# Altium footprint library Sensor_Power_Supply.PcbLib: 23 footprints (part 1 of 2)
Each footprint in its own frame and in the unit in brackets; x right, y up, seen from the top. Pads: shape width x height; smd on the part's side, far side on the other; paste and mask are expansions set on the pad; w line width, h text height; cw(c..) or ccw(c..) is an arc to the next point about the centre after c.
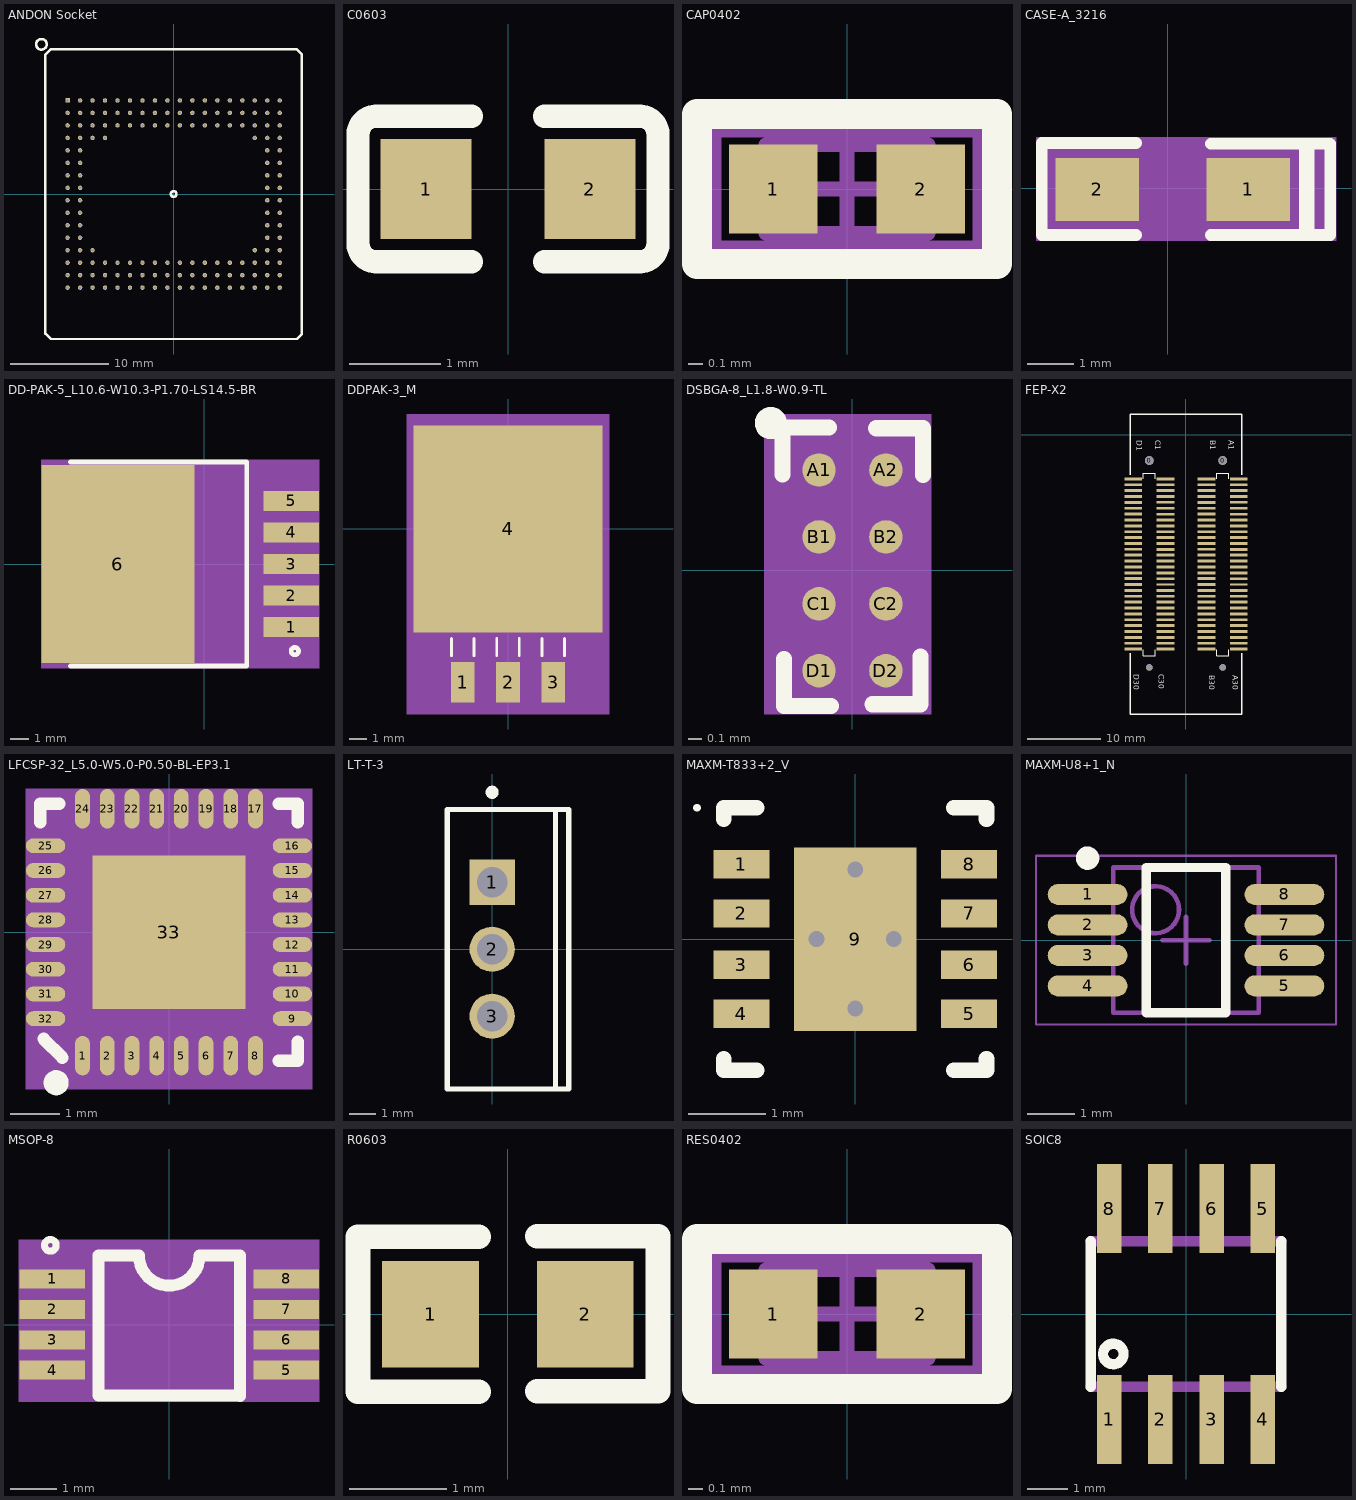
[diagram p0: the footprints below, top view; thin cyan lines are the x and y axes]

## ANDON Socket [mm] "10-18-04A-153-414T4-R27-L14"
pads (153):
  rect 0.45x0.45 hole 0.28 square: A1(-10.795,9.525)
  round 0.45 hole 0.28: A2(-9.525,9.525) A3(-8.255,9.525) A4(-6.985,9.525) A5(-5.715,9.525) A6(-4.445,9.525) A7(-3.175,9.525) A8(-1.905,9.525) A9(-0.635,9.525) A10(0.635,9.525) A11(1.905,9.525) A12(3.175,9.525) A13(4.445,9.525) A14(5.715,9.525) A15(6.985,9.525) A16(8.255,9.525) A17(9.525,9.525) A18(10.795,9.525) B1(-10.795,8.255) B2(-9.525,8.255) B3(-8.255,8.255) B4(-6.985,8.255) B5(-5.715,8.255) B6(-4.445,8.255) B7(-3.175,8.255) B8(-1.905,8.255) B9(-0.635,8.255) B10(0.635,8.255) B11(1.905,8.255) B12(3.175,8.255) B13(4.445,8.255) B14(5.715,8.255) B15(6.985,8.255) B16(8.255,8.255) B17(9.525,8.255) B18(10.795,8.255) C1(-10.795,6.985) C2(-9.525,6.985) C3(-8.255,6.985) C4(-6.985,6.985) C5(-5.715,6.985) C6(-4.445,6.985) C7(-3.175,6.985) C8(-1.905,6.985) C9(-0.635,6.985) C10(0.635,6.985) C11(1.905,6.985) C12(3.175,6.985) C13(4.445,6.985) C14(5.715,6.985) C15(6.985,6.985) C16(8.255,6.985) C17(9.525,6.985) C18(10.795,6.985) D1(-10.795,5.715) D2(-9.525,5.715) D3(-8.255,5.715) D4(-6.985,5.715) D16(8.255,5.715) D17(9.525,5.715) D18(10.795,5.715) E1(-10.795,4.445) E2(-9.525,4.445) E17(9.525,4.445) E18(10.795,4.445) F1(-10.795,3.175) F2(-9.525,3.175) F17(9.525,3.175) F18(10.795,3.175) G1(-10.795,1.905) G2(-9.525,1.905) G17(9.525,1.905) G18(10.795,1.905) H1(-10.795,0.635) H2(-9.525,0.635) H17(9.525,0.635) H18(10.795,0.635) J1(-10.795,-0.635) J2(-9.525,-0.635) J17(9.525,-0.635) J18(10.795,-0.635) K1(-10.795,-1.905) K2(-9.525,-1.905) K17(9.525,-1.905) K18(10.795,-1.905) L1(-10.795,-3.175) L2(-9.525,-3.175) L17(9.525,-3.175) L18(10.795,-3.175) M1(-10.795,-4.445) M2(-9.525,-4.445) M17(9.525,-4.445) M18(10.795,-4.445) N1(-10.795,-5.715) N2(-9.525,-5.715) N3(-8.255,-5.715) N16(8.255,-5.715) N17(9.525,-5.715) N18(10.795,-5.715) P1(-10.795,-6.985) P2(-9.525,-6.985) P3(-8.255,-6.985) P4(-6.985,-6.985) P5(-5.715,-6.985) P6(-4.445,-6.985) P7(-3.175,-6.985) P8(-1.905,-6.985) P9(-0.635,-6.985) P10(0.635,-6.985) P11(1.905,-6.985) P12(3.175,-6.985) P13(4.445,-6.985) P14(5.715,-6.985) P15(6.985,-6.985) P16(8.255,-6.985) P17(9.525,-6.985) P18(10.795,-6.985) R1(-10.795,-8.255) R2(-9.525,-8.255) R3(-8.255,-8.255) R4(-6.985,-8.255) R5(-5.715,-8.255) R6(-4.445,-8.255) R7(-3.175,-8.255) R8(-1.905,-8.255) R9(-0.635,-8.255) R10(0.635,-8.255) R11(1.905,-8.255) R12(3.175,-8.255) R13(4.445,-8.255) R14(5.715,-8.255) R15(6.985,-8.255) R16(8.255,-8.255) R17(9.525,-8.255) R18(10.795,-8.255) T1(-10.795,-9.525) T2(-9.525,-9.525) T3(-8.255,-9.525) T4(-6.985,-9.525) T5(-5.715,-9.525) T6(-4.445,-9.525) T7(-3.175,-9.525) T8(-1.905,-9.525) T9(-0.635,-9.525) T10(0.635,-9.525) T11(1.905,-9.525) T12(3.175,-9.525) T13(4.445,-9.525) T14(5.715,-9.525) T15(6.985,-9.525) T16(8.255,-9.525) T17(9.525,-9.525) T18(10.795,-9.525)
Top Overlay:
  circle w0.254: c-13.462,15.24 r0.539
  circle w0.254: c0,0 r0.284
  lines w0.254: -13.05,-14.2 -13.05,-13.843 -13.05,14.2 -12.5,14.75 12.5,14.75 13.05,14.2 13.05,-13.843 13.05,-14.255 12.555,-14.75 12.5,-14.75 -12.5,-14.75 -13.05,-14.2
3D body: height 4.5, standoff 0, extent -12.065,-11.049 12.065,10.922

## C0603 [mm]
pads (2):
  rect 1x1.1 smd: 1(-0.9,0) 2(0.9,0)
Top Overlay:
  lines w0.254: -0.4,-0.8 -1.4,-0.8 -1.45,-0.8 cw(c-1.45,-0.6) -1.65,-0.6 -1.65,0.6 cw(c-1.45,0.6) -1.45,0.8 -1.4,0.8 -0.4,0.8 ; 0.4,-0.8 1.4,-0.8 1.45,-0.8 ccw(c1.45,-0.6) 1.65,-0.6 1.65,0.6 ccw(c1.45,0.6) 1.45,0.8 1.4,0.8 0.4,0.8

## CAP0402 [mm]
pads (2):
  rect 0.6x0.6 smd: 1(-0.5,0) 2(0.5,0)
Top Overlay:
  lines w0.2: -1.016,-0.508 1.016,-0.508 1.016,0.508 -1.016,0.508 -1.016,-0.508
Mechanical 13:
  lines w0.1: -0.55,-0.3 0.55,-0.3 0.55,0.3 -0.55,0.3 -0.55,-0.3
Mechanical 15:
  lines w0.1: -0.3,0 0.3,0 ; 0,-0.3 0,0.3 ; -0.9,-0.4 0.9,-0.4 0.9,0.4 -0.9,0.4 -0.9,-0.4
3D body: height 0.6, standoff 0, extent -0.55,-0.3 0.55,0.3

## CASE-A_3216 [mil]
pads (2):
  rect 71.5x53.5 smd: 1(69,-1) 2(-60,-1)
Top Overlay:
  lines w10: -27,-40 -107.4,-40 -107.4,38.8 -27,38.8 ; 37,-40 139,-40 139,38 37,38
  lines w13: 119,-38 119,36
Mechanical 4:
  region: -112.4,43.8 144,43.8 144,-45 -112.4,-45
Mechanical 5:
  region: 33.25,25.75 104.75,25.75 104.75,-27.75 33.25,-27.75
  region: -95.75,25.75 -24.25,25.75 -24.25,-27.75 -95.75,-27.75

## DD-PAK-5_L10.6-W10.3-P1.70-LS14.5-BR [mm]
pads (6):
  rect 3x1.1 smd: 1(4.675,-3.4) 2(4.675,-1.7) 3(4.675,0) 4(4.675,1.7) 5(4.675,3.4)
  rect 8.255x10.668 smd: 6(-4.675,0)
Top Overlay:
  circle w0.254: c4.875,-4.7 r0.2
  lines w0.254: -7.225,-5.5 2.275,-5.5 2.275,5.5 -7.225,5.5
Mechanical 4:
  region: -8.807,5.627 6.179,5.627 6.179,-5.627 -8.807,-5.627
Mechanical 5:
  region: -8.802,5.334 -0.547,5.334 -0.547,-5.334 -8.802,-5.334
  region: 3.175,2.25 6.175,2.25 6.175,1.15 3.175,1.15
  region: 3.175,3.95 6.175,3.95 6.175,2.85 3.175,2.85
  region: 3.175,-2.85 6.175,-2.85 6.175,-3.95 3.175,-3.95
  region: 3.175,-1.15 6.175,-1.15 6.175,-2.25 3.175,-2.25
  region: 3.175,0.55 6.175,0.55 6.175,-0.55 3.175,-0.55
3D body "TO-263BA.SLDPRT": height 4.38, standoff 0, extent -8.509,-5.112 5.537,5.112

## DDPAK-3_M [mil]
pads (4):
  rect 52x90 smd: 1(-100,-339) 2(0,-339) 3(100,-339)
  rect 417x458 smd: 4(0,0)
Top Overlay:
  lines w6: -125,-280 -125,-242.1 ; -75,-280 -75,-242.1 ; -25,-280 -25,-242.1 ; 25,-280 25,-242.1 ; 75,-280 75,-242.1 ; 125,-280 125,-242.1
Mechanical 5:
  region: -223.5,254 223.5,254 223.5,-409 -223.5,-409
Mechanical 13:
  lines w1: -207.5,-215 -207.5,215 207.5,215 207.5,-215 -207.5,-215 ; -125,-370 -75,-370 -75,-215 -125,-215 -125,-370 ; -25,-370 25,-370 25,-215 -25,-215 -25,-370 ; 75,-370 125,-370 125,-215 75,-215 75,-370
Mechanical 15:
  region: -136,-239 -218.5,-239 -218.5,239 218.5,239 218.5,-239 136,-239 136,-394 -136,-394
  lines w6: -218.5,-239 -136,-239 -136,-394 136,-394 136,-239 218.5,-239 218.5,239 -218.5,239 -218.5,-239
3D body: height 10, standoff 0, extent 0,0 10,10

## DSBGA-8_L1.8-W0.9-TL [mm]
pads (8):
  round 0.25 smd: A1(-0.25,0.75) A2(0.25,0.75) B1(-0.25,0.25) B2(0.25,0.25) C1(-0.25,-0.25) C2(0.25,-0.25) D1(-0.25,-0.75) D2(0.25,-0.75)
Top Overlay:
  lines w0.12: -0.551,1.089 cw(c-0.61,1.1) -0.55,1.1 ; -0.523,0.716 -0.523,1.067 -0.175,1.067 ; -0.511,-0.663 -0.511,-1.013 -0.16,-1.013 ; 0.15,-1.001 0.508,-1.001 0.508,-0.643 ; 0.178,1.062 0.528,1.062 0.528,0.711
Mechanical 4:
  region: -0.66,1.168 0.588,1.168 0.588,-1.073 -0.66,-1.073
Mechanical 5:
  region: 0.125,-0.625 0.375,-0.625 0.375,-0.875 0.125,-0.875
  region: -0.375,-0.625 -0.125,-0.625 -0.125,-0.875 -0.375,-0.875
  region: -0.375,-0.125 -0.125,-0.125 -0.125,-0.375 -0.375,-0.375
  region: 0.125,-0.125 0.375,-0.125 0.375,-0.375 0.125,-0.375
  region: 0.125,0.375 0.375,0.375 0.375,0.125 0.125,0.125
  region: -0.375,0.375 -0.125,0.375 -0.125,0.125 -0.375,0.125
  region: -0.375,0.875 -0.125,0.875 -0.125,0.625 -0.375,0.625
  region: 0.125,0.875 0.375,0.875 0.375,0.625 0.125,0.625

## FEP-X2 [mm]
pads (124):
  round 0.889 hole 0.889: 0(-5,-31.7) 0(5,-31.7)
  round 1.2 hole 1.2: 0(-5,-3.5) 0(5,-3.5)
  rect 2.4x0.4 smd: A1(7.2,-6) A2(7.2,-6.8) A3(7.2,-7.6) A4(7.2,-8.4) A8(7.2,-11.6) A9(7.2,-12.4) A10(7.2,-13.2) A11(7.2,-14) A12(7.2,-14.8) A13(7.2,-15.6) A14(7.2,-16.4) A15(7.2,-17.2) A16(7.2,-18) A17(7.2,-18.8) A20(7.2,-21.2) A21(7.2,-22) A22(7.2,-22.8) A23(7.2,-23.6) A24(7.2,-24.4) A25(7.2,-25.2) A26(7.2,-26) A27(7.2,-26.8) A28(7.2,-27.6) A29(7.2,-28.4) A30(7.2,-29.2) B1(2.8,-6) B2(2.8,-6.8) B3(2.8,-7.6) B4(2.8,-8.4) B5(2.8,-9.2) B6(2.8,-10) B7(2.8,-10.8) B8(2.8,-11.6) B9(2.8,-12.4) B10(2.8,-13.2) B11(2.8,-14) B12(2.8,-14.8) B14(2.8,-16.4) B15(2.8,-17.2) B16(2.8,-18) B17(2.8,-18.8) B18(2.8,-19.6) B19(2.8,-20.4) B20(2.8,-21.2) B21(2.8,-22) B22(2.8,-22.8) B23(2.8,-23.6) B24(2.8,-24.4) B25(2.8,-25.2) B26(2.8,-26) B27(2.8,-26.8) B28(2.8,-27.6) B29(2.8,-28.4) B30(2.8,-29.2) C1(-2.8,-6) C2(-2.8,-6.8) C3(-2.8,-7.6) C4(-2.8,-8.4) C8(-2.8,-11.6) C9(-2.8,-12.4) C10(-2.8,-13.2) C11(-2.8,-14) C12(-2.8,-14.8) C13(-2.8,-15.6) C14(-2.8,-16.4) C15(-2.8,-17.2) C16(-2.8,-18) C17(-2.8,-18.8) C20(-2.8,-21.2) C21(-2.8,-22) C22(-2.8,-22.8) C23(-2.8,-23.6) C24(-2.8,-24.4) C25(-2.8,-25.2) C26(-2.8,-26) C27(-2.8,-26.8) C28(-2.8,-27.6) C29(-2.8,-28.4) C30(-2.8,-29.2) D1(-7.2,-6) D2(-7.2,-6.8) D3(-7.2,-7.6) D4(-7.2,-8.4) D5(-7.2,-9.2) D6(-7.2,-10) D7(-7.2,-10.8) D8(-7.2,-11.6) D9(-7.2,-12.4) D10(-7.2,-13.2) D11(-7.2,-14) D12(-7.2,-14.8) D14(-7.2,-16.4) D15(-7.2,-17.2) D16(-7.2,-18) D17(-7.2,-18.8) D18(-7.2,-19.6) D19(-7.2,-20.4) D20(-7.2,-21.2) D21(-7.2,-22) D22(-7.2,-22.8) D23(-7.2,-23.6) D24(-7.2,-24.4) D25(-7.2,-25.2) D26(-7.2,-26) D27(-7.2,-26.8) D28(-7.2,-27.6) D29(-7.2,-28.4) D30(-7.2,-29.2)
  rect 2.4x0.33 smd: A5(7.2,-9.2) A6(7.2,-10) A7(7.2,-10.8) A18(7.2,-19.6) A19(7.2,-20.4) B13(2.8,-15.6) C5(-2.8,-9.2) C6(-2.8,-10) C7(-2.8,-10.8) C18(-2.8,-19.6) C19(-2.8,-20.4) D13(-7.2,-15.6)
Top Overlay:
  lines w0.152: -5.8,-29.3 -5.8,-30.1 -4.2,-30.1 ; -5.8,-6 -5.8,-5.2 -4.2,-5.2 -4.2,-6 ; 4.2,-6 4.2,-5.2 5.8,-5.2 5.8,-6 ; 5.8,-29.3 5.8,-30.1 4.2,-30.1 ; -4.2,-30.1 -4.2,-29.3 -4.2,-30.1 ; 4.2,-30.1 4.2,-29.3 4.2,-30.1
  lines w0.203: -7.62,-29.795 -7.62,-38.05 7.62,-38.05 7.62,-29.795 ; -7.62,-5.405 -7.62,2.85 7.62,2.85 7.62,-5.405
  text "C30" at -3.683,-32.639 h0.76
  text "D30" at -7.112,-32.639 h0.76
  text "C1" at -4.191,-0.762 h0.76
  text "D1" at -6.731,-0.762 h0.76
  text "A30" at 6.35,-32.766 h0.76
  text "B30" at 3.175,-32.766 h0.76
  text "A1" at 5.842,-0.762 h0.76
  text "B1" at 3.302,-0.762 h0.76
3D body: height 1, standoff 0, extent 2.286,-30.099 7.62,-5.207
3D body: height 1, standoff 0, extent -7.62,-30.099 -2.286,-5.207

## LFCSP-32_L5.0-W5.0-P0.50-BL-EP3.1 [mm]
pads (33):
  oval 0.3x0.8 smd: 1(-1.75,-2.5) 2(-1.25,-2.5) 3(-0.75,-2.5) 4(-0.25,-2.5) 5(0.25,-2.5) 6(0.75,-2.5) 7(1.25,-2.5) 8(1.75,-2.5) 17(1.75,2.5) 18(1.25,2.5) 19(0.75,2.5) 20(0.25,2.5) 21(-0.25,2.5) 22(-0.75,2.5) 23(-1.25,2.5) 24(-1.75,2.5)
  oval 0.8x0.3 smd: 9(2.5,-1.75) 10(2.5,-1.25) 11(2.5,-0.75) 12(2.5,-0.25) 13(2.5,0.25) 14(2.5,0.75) 15(2.5,1.25) 16(2.5,1.75) 25(-2.5,1.75) 26(-2.5,1.25) 27(-2.5,0.75) 28(-2.5,0.25) 29(-2.5,-0.25) 30(-2.5,-0.75) 31(-2.5,-1.25) 32(-2.5,-1.75)
  rect 3.1x3.1 smd: 33(0,0)
Top Overlay:
  circle w0.254: c-2.286,-3.048 r0.127
  lines w0.254: -2.604,2.222 -2.604,2.603 -2.223,2.603 ; -2.54,-2.159 -2.159,-2.54 ; 2.222,-2.604 2.603,-2.604 2.603,-2.223 ; 2.222,2.603 2.603,2.603 2.603,2.222
Mechanical 4:
  region: -2.9,2.9 2.9,2.9 2.9,-3.175 -2.9,-3.175
Mechanical 5:
  region: -1.55,1.55 1.55,1.55 1.55,-1.55 -1.55,-1.55
  region: -1.9,-2.1 -1.6,-2.1 -1.6,-2.9 -1.9,-2.9
  region: -1.4,-2.1 -1.1,-2.1 -1.1,-2.9 -1.4,-2.9
  region: -0.9,-2.1 -0.6,-2.1 -0.6,-2.9 -0.9,-2.9
  region: -0.4,-2.1 -0.1,-2.1 -0.1,-2.9 -0.4,-2.9
  region: 0.1,-2.1 0.4,-2.1 0.4,-2.9 0.1,-2.9
  region: 0.6,-2.1 0.9,-2.1 0.9,-2.9 0.6,-2.9
  region: 1.1,-2.1 1.4,-2.1 1.4,-2.9 1.1,-2.9
  region: 1.6,-2.1 1.9,-2.1 1.9,-2.9 1.6,-2.9
  region: 2.1,-1.6 2.9,-1.6 2.9,-1.9 2.1,-1.9
  region: 2.1,-1.1 2.9,-1.1 2.9,-1.4 2.1,-1.4
  region: 2.1,-0.6 2.9,-0.6 2.9,-0.9 2.1,-0.9
  region: 2.1,-0.1 2.9,-0.1 2.9,-0.4 2.1,-0.4
  region: 2.1,0.4 2.9,0.4 2.9,0.1 2.1,0.1
  region: 2.1,0.9 2.9,0.9 2.9,0.6 2.1,0.6
  region: 2.1,1.4 2.9,1.4 2.9,1.1 2.1,1.1
  region: 2.1,1.9 2.9,1.9 2.9,1.6 2.1,1.6
  region: 1.6,2.9 1.9,2.9 1.9,2.1 1.6,2.1
  region: 1.1,2.9 1.4,2.9 1.4,2.1 1.1,2.1
  region: 0.6,2.9 0.9,2.9 0.9,2.1 0.6,2.1
  region: 0.1,2.9 0.4,2.9 0.4,2.1 0.1,2.1
  region: -0.4,2.9 -0.1,2.9 -0.1,2.1 -0.4,2.1
  region: -0.9,2.9 -0.6,2.9 -0.6,2.1 -0.9,2.1
  region: -1.4,2.9 -1.1,2.9 -1.1,2.1 -1.4,2.1
  region: -1.9,2.9 -1.6,2.9 -1.6,2.1 -1.9,2.1
  region: -2.9,1.9 -2.1,1.9 -2.1,1.6 -2.9,1.6
  region: -2.9,1.4 -2.1,1.4 -2.1,1.1 -2.9,1.1
  region: -2.9,0.9 -2.1,0.9 -2.1,0.6 -2.9,0.6
  region: -2.9,0.4 -2.1,0.4 -2.1,0.1 -2.9,0.1
  region: -2.9,-0.1 -2.1,-0.1 -2.1,-0.4 -2.9,-0.4
  region: -2.9,-0.6 -2.1,-0.6 -2.1,-0.9 -2.9,-0.9
  region: -2.9,-1.1 -2.1,-1.1 -2.1,-1.4 -2.9,-1.4
  region: -2.9,-1.6 -2.1,-1.6 -2.1,-1.9 -2.9,-1.9

## LT-T-3 [mil]
pads (3):
  rect 67.5x67.5 hole 46: 1(0,100)
  round 67.5 hole 46: 2(0,0) 3(0,-100)
Top Overlay:
  lines w7.9: 94.5,-208.7 94.5,208.7 ; -66.9,-208.7 114.2,-208.7 114.2,208.7 -66.9,208.7 -66.9,-208.7
  lines w9.8: 4.9,234.2 cw(c0,234.25) 4.9,234.3

## MAXM-T833+2_V [mil]
pads (9):
  rect 28.5x14.5 smd: 1(-58,38) 2(-58,13) 3(-58,-13) 4(-58,-38) 5(58,-38) 6(58,-13) 7(58,13) 8(58,38)
  rect 62.5x93.5 smd: 9(0,0)
via 0,35.4 diameter 19.7 hole 8
via 0,-35.4 diameter 19.7 hole 7.99
via -19.7,0 diameter 19.7 hole 8
via 19.7,0 diameter 19.7 hole 7.99
Top Overlay:
  circle w3.9: c-80.6,66.9 r0.01
  lines w7.9: -66.9,-61 -66.9,-66.9 -50.2,-66.9 ; -66.9,61 -66.9,66.9 -50.2,66.9 ; 50.2,-66.9 66.9,-66.9 66.9,-61 ; 50.2,66.9 66.9,66.9 66.9,61

## MAXM-U8+1_N [mm] "SOP, 8-Leads, Body 3x3mm, Pitch 0.65mm, IPC Medium Density"
height 1.1
pads (8):
  oval 1.7x0.45 smd: 1(-2.1,0.975) 2(-2.1,0.325) 3(-2.1,-0.325) 4(-2.1,-0.975) 5(2.1,-0.975) 6(2.1,-0.325) 7(2.1,0.325) 8(2.1,0.975)
Top Overlay:
  circle w0.25: c-2.1,1.75 r0.125
  lines w0.2: -0.85,-1.55 0.85,-1.55 0.85,1.55 -0.85,1.55 -0.85,-1.55
Mechanical 13:
  circle w0.1: c-0.65,0.65 r0.5
  lines w0.1: -1.55,-1.55 1.55,-1.55 1.55,1.55 -1.55,1.55 -1.55,-1.55
Mechanical 15:
  lines w0.05: -3.2,-1.8 3.2,-1.8 3.2,1.8 -3.2,1.8 -3.2,-1.8
  lines w0.1: -0.5,0 0.5,0 ; 0,-0.5 0,0.5
3D body: height 1.1, standoff 0.05, extent -1.55,-1.55 1.55,1.55

## MSOP-8 [mil]
pads (8):
  rect 55x16 smd: 1(-98.5,38.39) 2(-98.5,12.8) 3(-98.5,-12.79) 4(-98.5,-38.39) 5(98.5,-38.39) 6(98.5,-12.79) 7(98.5,12.8) 8(98.5,38.39)
Top Overlay:
  lines w5.91: -95.08,66.65 cw(c-100,66.7) -95.08,66.76
  lines w10: -59.5,58.2 -25.5,58.2 ccw(c0,58.2) 25.5,58.2 59.5,58.2 59.5,-59.91 ; -59.5,58.31 -59.5,-59.8 58.61,-59.8
Mechanical 4:
  region: -126.34,71.36 126,71.36 126,-64.91 -126.34,-64.91
Mechanical 5:
  region: 71,46.39 126,46.39 126,30.39 71,30.39
  region: 71,20.8 126,20.8 126,4.8 71,4.8
  region: 71,-4.79 126,-4.79 126,-20.8 71,-20.8
  region: 71,-30.39 126,-30.39 126,-46.38 71,-46.38
  region: -126,-30.39 -71,-30.39 -71,-46.39 -126,-46.39
  region: -126,-4.79 -71,-4.79 -71,-20.8 -126,-20.8
  region: -126,20.8 -71,20.8 -71,4.8 -126,4.8
  region: -126,46.39 -71,46.39 -71,30.39 -126,30.39
3D body "MSOP-8.SLDPRT": height 39.37, standoff -3.94, extent -97.19,-61.02 97.2,61.03

## R0603 [mm]
pads (2):
  rect 1x1.1 smd: 1(-0.8,0) 2(0.8,0)
Top Overlay:
  lines w0.254: -0.3,-0.8 -1.55,-0.8 -1.55,0.8 -0.3,0.8 ; 0.301,-0.795 1.551,-0.795 1.551,0.805 0.301,0.805

## RES0402 [mm]
pads (2):
  rect 0.6x0.6 smd: 1(-0.5,0) 2(0.5,0)
Top Overlay:
  lines w0.2: -1.016,-0.508 1.016,-0.508 1.016,0.508 -1.016,0.508 -1.016,-0.508
Mechanical 13:
  lines w0.1: -0.55,-0.3 -0.55,0.3 0.55,0.3 0.55,-0.3 -0.55,-0.3
Mechanical 15:
  lines w0.1: -0.3,0 0.3,0 ; 0,-0.3 0,0.3 ; -0.9,-0.4 0.9,-0.4 0.9,0.4 -0.9,0.4 -0.9,-0.4
3D body: height 0.6, standoff 0, extent -0.55,-0.3 0.55,0.3

## SOIC8 [mil]
pads (8):
  rect 24x87 smd: 1(-75,-103) 2(-25,-103) 3(25,-103) 4(75,-103) 5(75,103) 6(25,103) 7(-25,103) 8(-75,103)
Top Overlay:
  circle w10: c-71,-39 r10
  lines w10: -93,-71 -93,71 ; 93,-71 93,71
Mechanical 15:
  lines w10: -93,-71 93,-71 ; -93,71 93,71